# Altium footprint library CS_PcbLib1.PcbLib: 48 footprints (part 3 of 3)
Each footprint in its own frame and in the unit in brackets; x right, y up, seen from the top. Pads: shape width x height; smd on the part's side, far side on the other; paste and mask are expansions set on the pad; w line width, h text height; cw(c..) or ccw(c..) is an arc to the next point about the centre after c.
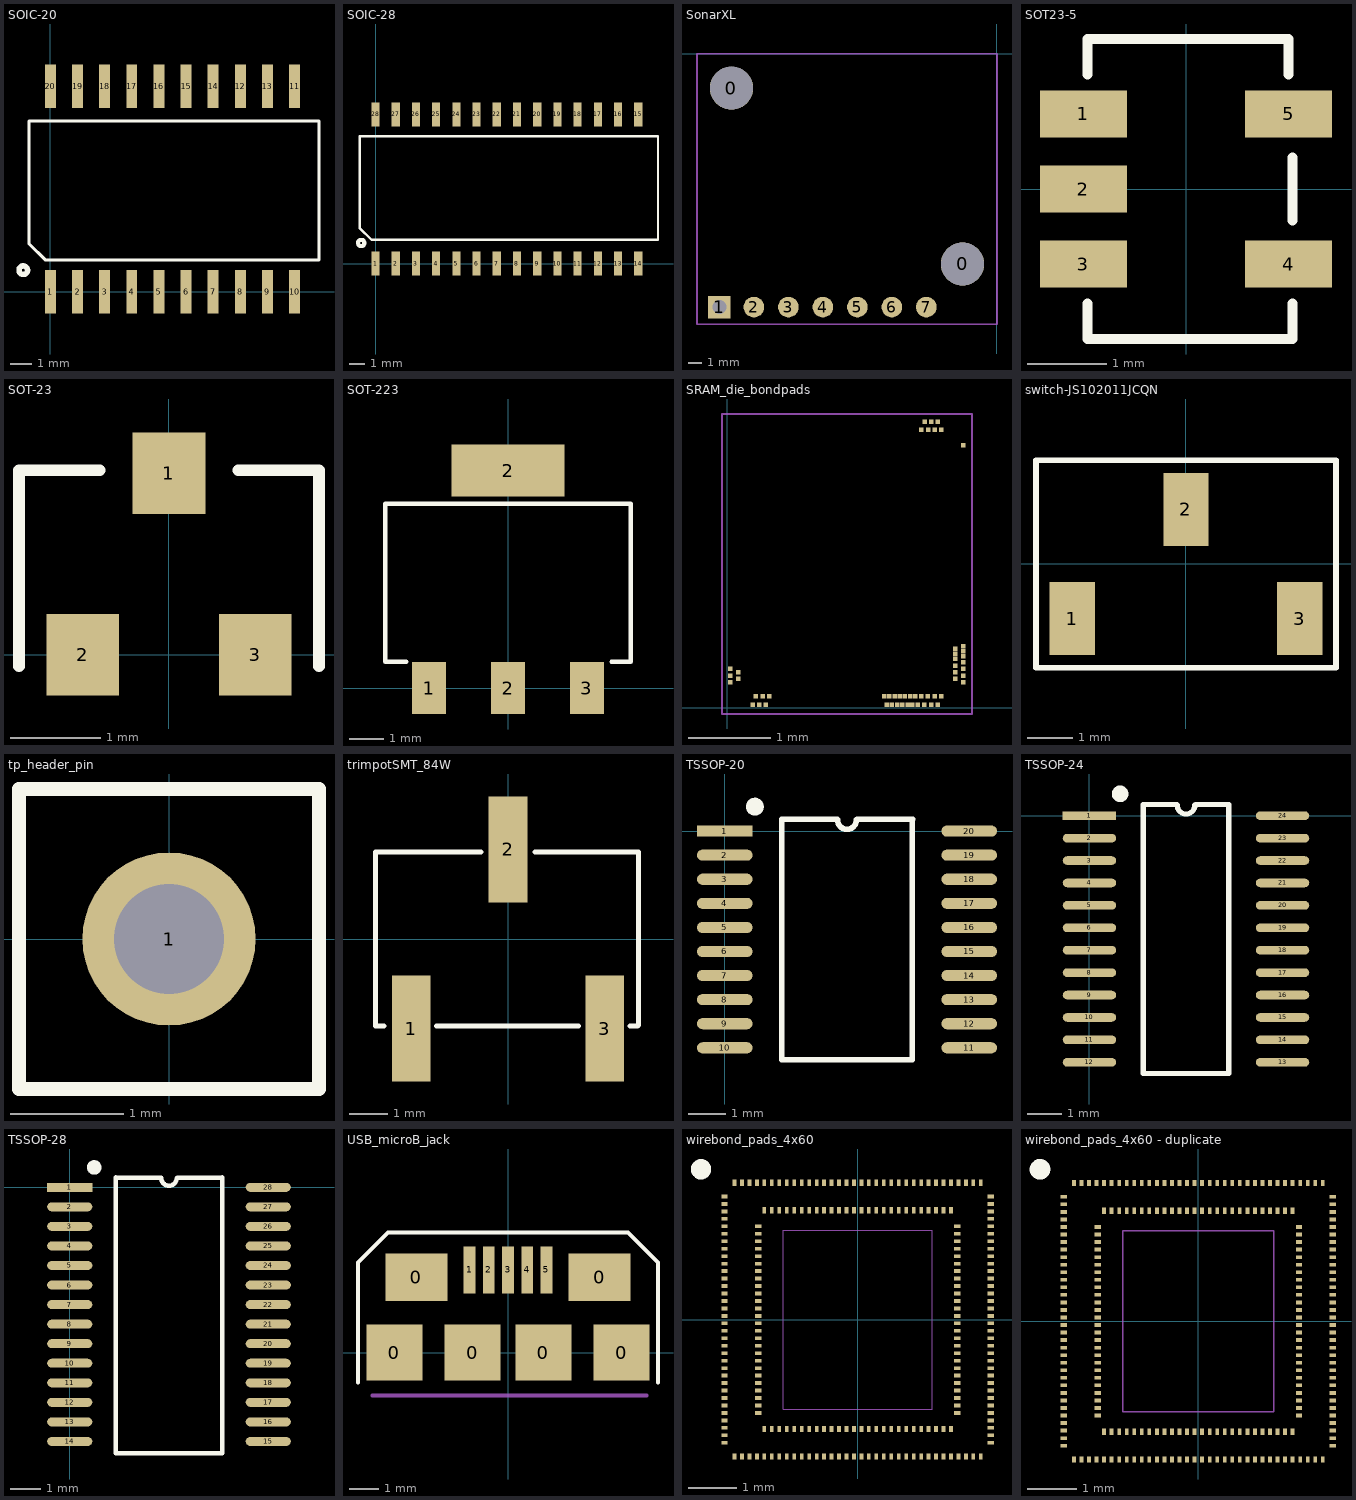
[diagram p2: the footprints below, top view; thin cyan lines are the x and y axes]

## SOIC-20 [mil] "small outline integrated circuit 20-pin"
pads (20):
  rect 20.08x80 smd: 1(0,0) 2(50,0) 3(100,0) 4(150,0) 5(200,0) 6(250,0) 7(300,0) 8(350,0) 9(400,0) 10(450,0) 11(450,379.29) 12(350,379.29) 13(400,379.29) 14(300,379.29) 15(250,379.29) 16(200,379.29) 17(150,379.29) 18(100,379.29) 19(50,379.29) 20(0,379.29)
Top Overlay:
  circle w10: c-50,40 r7.87
  lines w5.91: -39.37,88.58 -9.84,59.06 495,59.06 495,314.96 -39.37,314.96 -39.37,88.58

## SOIC-28 [mm]
pads (28):
  rect 0.51x1.5 smd: 1(0,0) 2(1.27,0) 3(2.54,0) 4(3.81,0) 5(5.08,0) 6(6.35,0) 7(7.62,0) 8(8.89,0) 9(10.16,0) 10(11.43,0) 11(12.7,0) 12(13.97,0) 13(15.24,0) 14(16.51,0) 15(16.51,9.38) 16(15.24,9.38) 17(13.97,9.38) 18(12.7,9.38) 19(11.43,9.38) 20(10.16,9.38) 21(8.89,9.38) 22(7.62,9.38) 23(6.35,9.38) 24(5.08,9.38) 25(3.81,9.38) 26(2.54,9.38) 27(1.27,9.38) 28(0,9.38)
Top Overlay:
  circle w0.254: c-0.9,1.3 r0.2
  lines w0.15: -1,2.25 -0.25,1.5 17.75,1.5 17.75,8 -1,8 -1,2.25

## SonarXL [mil] "module for object distance sensing using sonar"
pads (9):
  round 125 hole 125: 0(-770,-100) 0(-100,-610)
  rect 65x65 hole 40: 1(-805,-735)
  round 60 all layers, no hole: 2(-705,-735) 3(-605,-735) 4(-505,-735) 5(-405,-735) 6(-305,-735) 7(-205,-735)
3D Bottom:
  lines w5: -870,-785 0,-785 0,0 -870,0 -870,-785

## SOT23-5 [mm]
pads (5):
  rect 1.1x0.6 smd mask+0: 1(-1.3,0.95) 2(-1.3,0) 3(-1.3,-0.95) 4(1.3,-0.95) 5(1.3,0.95)
Top Overlay:
  lines w0.127: -1.25,-1.45 -1.25,-1.9 1.35,-1.9 1.35,-1.45 ; -1.25,1.45 -1.25,1.9 1.3,1.9 1.3,1.45 ; 1.35,-0.4 1.35,0.4

## SOT-23 [mm]
pads (3):
  rect 0.8x0.9 smd mask+0: 1(0,2) 2(-0.95,0) 3(0.95,0)
Top Overlay:
  lines w0.127: -1.651,-0.127 -1.651,2.032 -0.762,2.032 ; 0.762,2.032 1.651,2.032 1.651,-0.127

## SOT-223 [mil]
pads (4):
  rect 39x59 smd mask+0: 1(-90,0) 2(0,0) 3(90,0)
  rect 129x59 smd mask+0: 2(0,248)
Top Overlay:
  lines w5: -116,30 -140,30 -140,210 140,210 140,30 118,30

## SRAM_die_bondpads [mm] "wirebonding pads on SRAM die - for wirebonding drawing"
pads (53):
  rect 0.055x0.055 smd mask+0: 1(2.88,0.307) 2(2.781,0.35) 3(2.88,0.389) 4(2.781,0.431) 5(2.88,0.472) 6(2.781,0.512) 7(2.88,0.551) 8(2.781,0.594) 9(2.88,0.624) 10(2.781,0.654) 11(2.88,0.686) 12(2.781,0.719) 13(2.88,0.749) 88(2.88,3.199) 89(2.609,3.384) 90(2.568,3.483) 91(2.529,3.384) 92(2.486,3.483) 93(2.448,3.384) 94(2.408,3.483) 95(2.365,3.384) 241(0.036,0.472) 242(0.135,0.432) 243(0.036,0.389) 244(0.135,0.35) 245(0.036,0.307) 246(0.308,0.036) 247(0.349,0.135) 248(0.389,0.036) 249(0.431,0.135) 250(0.469,0.036) 251(0.51,0.135) 294(1.915,0.135) 295(1.946,0.036) 296(1.976,0.135) 297(2.007,0.036) 298(2.041,0.135) 299(2.07,0.036) 300(2.103,0.135) 301(2.135,0.036) 302(2.166,0.135) 303(2.199,0.036) 304(2.228,0.135) 305(2.258,0.036) 306(2.291,0.135) 307(2.324,0.036) 308(2.365,0.135) 309(2.404,0.036) 310(2.444,0.135) 311(2.488,0.036) 312(2.528,0.135) 313(2.565,0.036) 314(2.611,0.135)
Courtyard Top:
  lines w0.025: -0.064,-0.079 2.984,-0.079 2.984,3.579 -0.064,3.579 -0.064,-0.079

## switch-JS102011JCQN [mm] "surface mount slide switch C&K JS series"
pads (3):
  rect 1x1.6 smd: 1(-2.5,-1.2) 2(0,1.2) 3(2.5,-1.2)
Top Overlay:
  lines w0.127: -3.302,-2.286 -3.302,2.286 3.302,2.286 3.302,-2.286 -3.302,-2.286

## tp_header_pin [mil] "thru-hole header pin for testpoint"
pads (1):
  round 60 hole 38 mask+0: 1(0,0)
Top Overlay:
  lines w5: -52,-52 52,-52 52,52 -52,52 -52,-52

## trimpotSMT_84W [mil] "surface mount trimpot ttelectronics pin style W"
pads (3):
  rect 40x110 smd mask+0: 1(-100,-92.5) 2(0,92.5) 3(100,-92.5)
Top Overlay:
  lines w5: -128,-90 -137,-90 -137,90 -28,90 ; -74,-90 73,-90 ; 28,90 135,90 135,-89 134,-90 126,-90

## TSSOP-20 [mm]
pads (20):
  rect 1.5x0.3 smd: 1(0,0)
  oval 1.5x0.3 smd: 2(0,-0.65) 3(0,-1.3) 4(0,-1.95) 5(0,-2.6) 6(0,-3.25) 7(0,-3.9) 8(0,-4.55) 9(0,-5.2) 10(0,-5.85) 11(6.6,-5.85) 12(6.6,-5.2) 13(6.6,-4.55) 14(6.6,-3.9) 15(6.6,-3.25) 16(6.6,-2.6) 17(6.6,-1.95) 18(6.6,-1.3) 19(6.6,-0.65) 20(6.6,0)
Top Overlay:
  circle w0.254: c0.813,0.66 r0.114
  lines w0.15: 1.535,0.325 1.535,-6.175 5.065,-6.175 5.065,0.325 ; 1.54,0.32 3.04,0.32 ; 3.043,0.304 ccw(c3.298,0.305) 3.554,0.304 ; 3.58,0.32 5.07,0.32

## TSSOP-24 [mm]
pads (24):
  rect 1.55x0.25 smd: 1(0,0)
  oval 1.55x0.25 smd: 2(0,-0.65) 3(0,-1.3) 4(0,-1.95) 5(0,-2.6) 6(0,-3.25) 7(0,-3.9) 8(0,-4.55) 9(0,-5.2) 10(0,-5.85) 11(0,-6.5) 12(0,-7.15) 13(5.6,-7.15) 14(5.6,-6.5) 15(5.6,-5.85) 16(5.6,-5.2) 17(5.6,-4.55) 18(5.6,-3.9) 19(5.6,-3.25) 20(5.6,-2.6) 21(5.6,-1.95) 22(5.6,-1.3) 23(5.6,-0.65) 24(5.6,0)
Top Overlay:
  circle w0.254: c0.889,0.635 r0.114
  lines w0.15: 2.54,0.325 1.56,0.325 1.56,-7.475 4.04,-7.475 4.04,0.33 ; 2.545,0.305 ccw(c2.8,0.306) 3.056,0.305 ; 3.073,0.33 4.039,0.33

## TSSOP-28 [mm]
pads (28):
  rect 1.5x0.3 smd: 1(0,0)
  oval 1.5x0.3 smd: 2(0,-0.65) 3(0,-1.3) 4(0,-1.95) 5(0,-2.6) 6(0,-3.25) 7(0,-3.9) 8(0,-4.55) 9(0,-5.2) 10(0,-5.85) 11(0,-6.5) 12(0,-7.15) 13(0,-7.8) 14(0,-8.45) 15(6.6,-8.45) 16(6.6,-7.8) 17(6.6,-7.15) 18(6.6,-6.5) 19(6.6,-5.85) 20(6.6,-5.2) 21(6.6,-4.55) 22(6.6,-3.9) 23(6.6,-3.25) 24(6.6,-2.6) 25(6.6,-1.95) 26(6.6,-1.3) 27(6.6,-0.65) 28(6.6,0)
Top Overlay:
  circle w0.254: c0.813,0.66 r0.114
  lines w0.15: 1.535,0.325 1.535,-8.85 5.065,-8.85 5.065,0.325 ; 1.54,0.32 3.04,0.32 ; 3.043,0.304 ccw(c3.298,0.305) 3.554,0.304 ; 3.58,0.32 5.07,0.32

## USB_microB_jack [mm] "pcb mount USB micro B jack"
pads (11):
  rect 1.9x1.9 smd: 0(-3.85,0) 0(-1.2,0) 0(1.2,0) 0(3.85,0)
  rect 2.1x1.6 smd: 0(-3.1,2.55) 0(3.1,2.55)
  rect 0.4x1.6 smd: 1(-1.3,2.8) 2(-0.65,2.8) 3(0,2.8) 4(0.65,2.8) 5(1.3,2.8)
Top Overlay:
  lines w0.127: -5.08,-1.016 -5.08,3.048 -4.064,4.064 4.064,4.064 5.08,3.048 5.08,-1.016
3D Top:
  lines w0.127: -4.6,-1.45 4.7,-1.45

## wirebond_pads_4x60 [mil] "group of 4x60 wirebond pads 5mil wide, 3mil high, 3mil spacing"
pads (240):
  rect 5x3 smd paste+0 mask+0: 1(-107,99) 2(-107,93) 3(-107,87) 4(-107,81) 5(-107,75) 6(-80,75) 7(-107,69) 8(-80,69) 9(-107,63) 10(-80,63) 11(-107,57) 12(-80,57) 13(-107,51) 14(-80,51) 15(-107,45) 16(-80,45) 17(-107,39) 18(-80,39) 19(-107,33) 20(-80,33) 21(-107,27) 22(-80,27) 23(-107,21) 24(-80,21) 25(-107,15) 26(-80,15) 27(-107,9) 28(-80,9) 29(-107,3) 30(-80,3) 31(-107,-3) 32(-80,-3) 33(-107,-9) 34(-80,-9) 35(-107,-15) 36(-80,-15) 37(-107,-21) 38(-80,-21) 39(-107,-27) 40(-80,-27) 41(-107,-33) 42(-80,-33) 43(-107,-39) 44(-80,-39) 45(-107,-45) 46(-80,-45) 47(-107,-51) 48(-80,-51) 49(-107,-57) 50(-80,-57) 51(-107,-63) 52(-80,-63) 53(-107,-69) 54(-80,-69) 55(-107,-75) 56(-80,-75) 57(-107,-81) 58(-107,-87) 59(-107,-93) 60(-107,-99)
  rect 3x5 smd: 61(-99,-110) 62(-93,-110) 63(-87,-110) 64(-81,-110) 65(-75,-110) 66(-75,-88) 67(-69,-110) 68(-69,-88) 69(-63,-110) 70(-63,-88) 71(-57,-110) 72(-57,-88) 73(-51,-110) 74(-51,-88) 75(-45,-110) 76(-45,-88) 77(-39,-110) 78(-39,-88) 79(-33,-110) 80(-33,-88) 81(-27,-110) 82(-27,-88) 83(-21,-110) 84(-21,-88) 85(-15,-110) 86(-15,-88) 87(-9,-110) 88(-9,-88) 89(-3,-110) 90(-3,-88) 91(3,-110) 92(3,-88) 93(9,-110) 94(9,-88) 95(15,-110) 96(15,-88) 97(21,-110) 98(21,-88) 99(27,-110) 100(27,-88) 101(33,-110) 102(33,-88) 103(39,-110) 104(39,-88) 105(45,-110) 106(45,-88) 107(51,-110) 108(51,-88) 109(57,-110) 110(57,-88) 111(63,-110) 112(63,-88) 113(69,-110) 114(69,-88) 115(75,-110) 116(75,-88) 117(81,-110) 118(87,-110) 119(93,-110) 120(99,-110) 181(99,110) 182(93,110) 183(87,110) 184(81,110) 185(75,110) 186(75,88) 187(69,110) 188(69,88) 189(63,110) 190(63,88) 191(57,110) 192(57,88) 193(51,110) 194(51,88) 195(45,110) 196(45,88) 197(39,110) 198(39,88) 199(33,110) 200(33,88) 201(27,110) 202(27,88) 203(21,110) 204(21,88) 205(15,110) 206(15,88) 207(9,110) 208(9,88) 209(3,110) 210(3,88) 211(-3,110) 212(-3,88) 213(-9,110) 214(-9,88) 215(-15,110) 216(-15,88) 217(-21,110) 218(-21,88) 219(-27,110) 220(-27,88) 221(-33,110) 222(-33,88) 223(-39,110) 224(-39,88) 225(-45,110) 226(-45,88) 227(-51,110) 228(-51,88) 229(-57,110) 230(-57,88) 231(-63,110) 232(-63,88) 233(-69,110) 234(-69,88) 235(-75,110) 236(-75,88) 237(-81,110) 238(-87,110) 239(-93,110) 240(-99,110)
  rect 5x3 smd: 121(107,-99) 122(107,-93) 123(107,-87) 124(107,-81) 125(107,-75) 126(80,-75) 127(107,-69) 128(80,-69) 129(107,-63) 130(80,-63) 131(107,-57) 132(80,-57) 133(107,-51) 134(80,-51) 135(107,-45) 136(80,-45) 137(107,-39) 138(80,-39) 139(107,-33) 140(80,-33) 141(107,-27) 142(80,-27) 143(107,-21) 144(80,-21) 145(107,-15) 146(80,-15) 147(107,-9) 148(80,-9) 149(107,-3) 150(80,-3) 151(107,3) 152(80,3) 153(107,9) 154(80,9) 155(107,15) 156(80,15) 157(107,21) 158(80,21) 159(107,27) 160(80,27) 161(107,33) 162(80,33) 163(107,39) 164(80,39) 165(107,45) 166(80,45) 167(107,51) 168(80,51) 169(107,57) 170(80,57) 171(107,63) 172(80,63) 173(107,69) 174(80,69) 175(107,75) 176(80,75) 177(107,81) 178(107,87) 179(107,93) 180(107,99)
Top Overlay:
  circle w10: c-125.98,120.87 r3.17
Top Solder:
  rectangle: -112,-115 112,115
Courtyard Top:
  lines w1: -60,-72 60,-72 60,72 -60,72 -60,-72

## wirebond_pads_4x60 - duplicate [mil] "group of 4x60 wirebond pads 5mil wide, 3mil high, 3mil spacing"
pads (240):
  rect 5x3 smd paste+0 mask+0: 1(-107,99) 2(-107,93) 3(-107,87) 4(-107,81) 5(-107,75) 6(-80,75) 7(-107,69) 8(-80,69) 9(-107,63) 10(-80,63) 11(-107,57) 12(-80,57) 13(-107,51) 14(-80,51) 15(-107,45) 16(-80,45) 17(-107,39) 18(-80,39) 19(-107,33) 20(-80,33) 21(-107,27) 22(-80,27) 23(-107,21) 24(-80,21) 25(-107,15) 26(-80,15) 27(-107,9) 28(-80,9) 29(-107,3) 30(-80,3) 31(-107,-3) 32(-80,-3) 33(-107,-9) 34(-80,-9) 35(-107,-15) 36(-80,-15) 37(-107,-21) 38(-80,-21) 39(-107,-27) 40(-80,-27) 41(-107,-33) 42(-80,-33) 43(-107,-39) 44(-80,-39) 45(-107,-45) 46(-80,-45) 47(-107,-51) 48(-80,-51) 49(-107,-57) 50(-80,-57) 51(-107,-63) 52(-80,-63) 53(-107,-69) 54(-80,-69) 55(-107,-75) 56(-80,-75) 57(-107,-81) 58(-107,-87) 59(-107,-93) 60(-107,-99)
  rect 3x5 smd: 61(-99,-110) 62(-93,-110) 63(-87,-110) 64(-81,-110) 65(-75,-110) 66(-75,-88) 67(-69,-110) 68(-69,-88) 69(-63,-110) 70(-63,-88) 71(-57,-110) 72(-57,-88) 73(-51,-110) 74(-51,-88) 75(-45,-110) 76(-45,-88) 77(-39,-110) 78(-39,-88) 79(-33,-110) 80(-33,-88) 81(-27,-110) 82(-27,-88) 83(-21,-110) 84(-21,-88) 85(-15,-110) 86(-15,-88) 87(-9,-110) 88(-9,-88) 89(-3,-110) 90(-3,-88) 91(3,-110) 92(3,-88) 93(9,-110) 94(9,-88) 95(15,-110) 96(15,-88) 97(21,-110) 98(21,-88) 99(27,-110) 100(27,-88) 101(33,-110) 102(33,-88) 103(39,-110) 104(39,-88) 105(45,-110) 106(45,-88) 107(51,-110) 108(51,-88) 109(57,-110) 110(57,-88) 111(63,-110) 112(63,-88) 113(69,-110) 114(69,-88) 115(75,-110) 116(75,-88) 117(81,-110) 118(87,-110) 119(93,-110) 120(99,-110) 181(99,110) 182(93,110) 183(87,110) 184(81,110) 185(75,110) 186(75,88) 187(69,110) 188(69,88) 189(63,110) 190(63,88) 191(57,110) 192(57,88) 193(51,110) 194(51,88) 195(45,110) 196(45,88) 197(39,110) 198(39,88) 199(33,110) 200(33,88) 201(27,110) 202(27,88) 203(21,110) 204(21,88) 205(15,110) 206(15,88) 207(9,110) 208(9,88) 209(3,110) 210(3,88) 211(-3,110) 212(-3,88) 213(-9,110) 214(-9,88) 215(-15,110) 216(-15,88) 217(-21,110) 218(-21,88) 219(-27,110) 220(-27,88) 221(-33,110) 222(-33,88) 223(-39,110) 224(-39,88) 225(-45,110) 226(-45,88) 227(-51,110) 228(-51,88) 229(-57,110) 230(-57,88) 231(-63,110) 232(-63,88) 233(-69,110) 234(-69,88) 235(-75,110) 236(-75,88) 237(-81,110) 238(-87,110) 239(-93,110) 240(-99,110)
  rect 5x3 smd: 121(107,-99) 122(107,-93) 123(107,-87) 124(107,-81) 125(107,-75) 126(80,-75) 127(107,-69) 128(80,-69) 129(107,-63) 130(80,-63) 131(107,-57) 132(80,-57) 133(107,-51) 134(80,-51) 135(107,-45) 136(80,-45) 137(107,-39) 138(80,-39) 139(107,-33) 140(80,-33) 141(107,-27) 142(80,-27) 143(107,-21) 144(80,-21) 145(107,-15) 146(80,-15) 147(107,-9) 148(80,-9) 149(107,-3) 150(80,-3) 151(107,3) 152(80,3) 153(107,9) 154(80,9) 155(107,15) 156(80,15) 157(107,21) 158(80,21) 159(107,27) 160(80,27) 161(107,33) 162(80,33) 163(107,39) 164(80,39) 165(107,45) 166(80,45) 167(107,51) 168(80,51) 169(107,57) 170(80,57) 171(107,63) 172(80,63) 173(107,69) 174(80,69) 175(107,75) 176(80,75) 177(107,81) 178(107,87) 179(107,93) 180(107,99)
Top Overlay:
  circle w10: c-125.98,120.87 r3.17
Courtyard Top:
  lines w1: -60,-72 60,-72 60,72 -60,72 -60,-72